# Altium schematic symbol library 2019-10-24_12-30-41.SchLib: 2 symbols
Pins are listed as number, name and electrical type; pins without a type are passive.

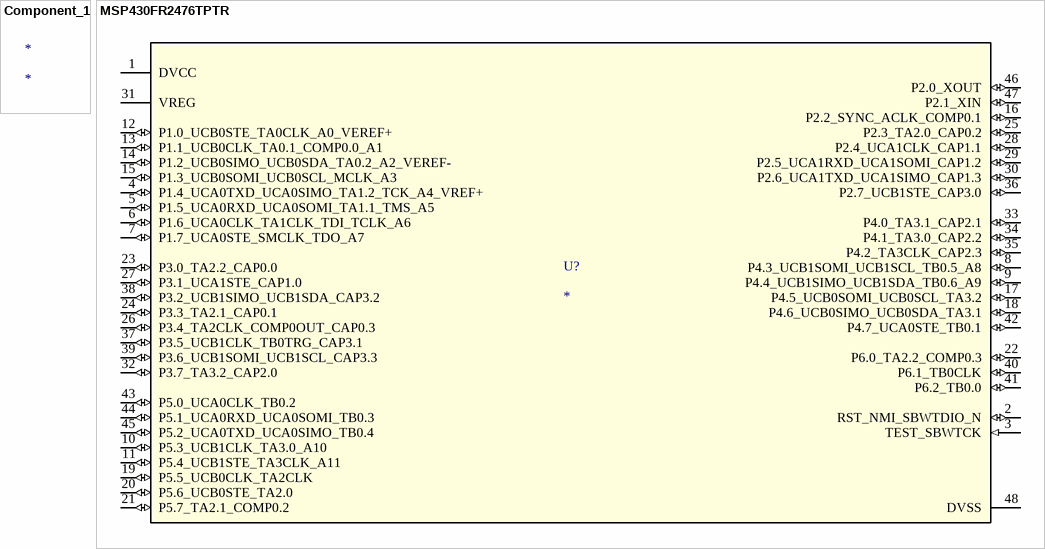
[diagram p0: symbols Component_1 to MSP430FR2476TPTR]

## Component_1
designator *

## MSP430FR2476TPTR
designator U?
Imported; PartNumber: MSP430FR2476TPTR; Manufacturer: Texas Instruments; RefDes: RefDes; TYPE: TYPE; Value: Value
footprint PT0048A_N
pins: 1 DVCC (power), 2 RST_NMI_SBWTDIO_N (io), 3 TEST_SBWTCK (in), 4 P1.4_UCA0TXD_UCA0SIMO_TA1.2_TCK_A4_VREF+ (io), 5 P1.5_UCA0RXD_UCA0SOMI_TA1.1_TMS_A5 (io), 6 P1.6_UCA0CLK_TA1CLK_TDI_TCLK_A6 (io), 7 P1.7_UCA0STE_SMCLK_TDO_A7 (io), 8 P4.3_UCB1SOMI_UCB1SCL_TB0.5_A8 (io), 9 P4.4_UCB1SIMO_UCB1SDA_TB0.6_A9 (io), 10 P5.3_UCB1CLK_TA3.0_A10 (io), 11 P5.4_UCB1STE_TA3CLK_A11 (io), 12 P1.0_UCB0STE_TA0CLK_A0_VEREF+ (io), 13 P1.1_UCB0CLK_TA0.1_COMP0.0_A1 (io), 14 P1.2_UCB0SIMO_UCB0SDA_TA0.2_A2_VEREF- (io), 15 P1.3_UCB0SOMI_UCB0SCL_MCLK_A3 (io), 16 P2.2_SYNC_ACLK_COMP0.1 (io), 17 P4.5_UCB0SOMI_UCB0SCL_TA3.2 (io), 18 P4.6_UCB0SIMO_UCB0SDA_TA3.1 (io), 19 P5.5_UCB0CLK_TA2CLK (io), 20 P5.6_UCB0STE_TA2.0 (io), 21 P5.7_TA2.1_COMP0.2 (io), 22 P6.0_TA2.2_COMP0.3 (io), 23 P3.0_TA2.2_CAP0.0 (io), 24 P3.3_TA2.1_CAP0.1 (io), 25 P2.3_TA2.0_CAP0.2 (io), 26 P3.4_TA2CLK_COMP0OUT_CAP0.3 (io), 27 P3.1_UCA1STE_CAP1.0 (io), 28 P2.4_UCA1CLK_CAP1.1 (io), 29 P2.5_UCA1RXD_UCA1SOMI_CAP1.2 (io), 30 P2.6_UCA1TXD_UCA1SIMO_CAP1.3 (io), 31 VREG (power), 32 P3.7_TA3.2_CAP2.0 (io), 33 P4.0_TA3.1_CAP2.1 (io), 34 P4.1_TA3.0_CAP2.2 (io), 35 P4.2_TA3CLK_CAP2.3 (io), 36 P2.7_UCB1STE_CAP3.0 (io), 37 P3.5_UCB1CLK_TB0TRG_CAP3.1 (io), 38 P3.2_UCB1SIMO_UCB1SDA_CAP3.2 (io), 39 P3.6_UCB1SOMI_UCB1SCL_CAP3.3 (io), 40 P6.1_TB0CLK (io), 41 P6.2_TB0.0 (io), 42 P4.7_UCA0STE_TB0.1 (io), 43 P5.0_UCA0CLK_TB0.2 (io), 44 P5.1_UCA0RXD_UCA0SOMI_TB0.3 (io), 45 P5.2_UCA0TXD_UCA0SIMO_TB0.4 (io), 46 P2.0_XOUT (io), 47 P2.1_XIN (io), 48 DVSS (power)